# Altium footprint library LED-DIODE.PcbLib: 29 footprints (part 1 of 2)
Each footprint in its own frame and in the unit in brackets; x right, y up, seen from the top. Pads: shape width x height; smd on the part's side, far side on the other; paste and mask are expansions set on the pad; w line width, h text height; cw(c..) or ccw(c..) is an arc to the next point about the centre after c.
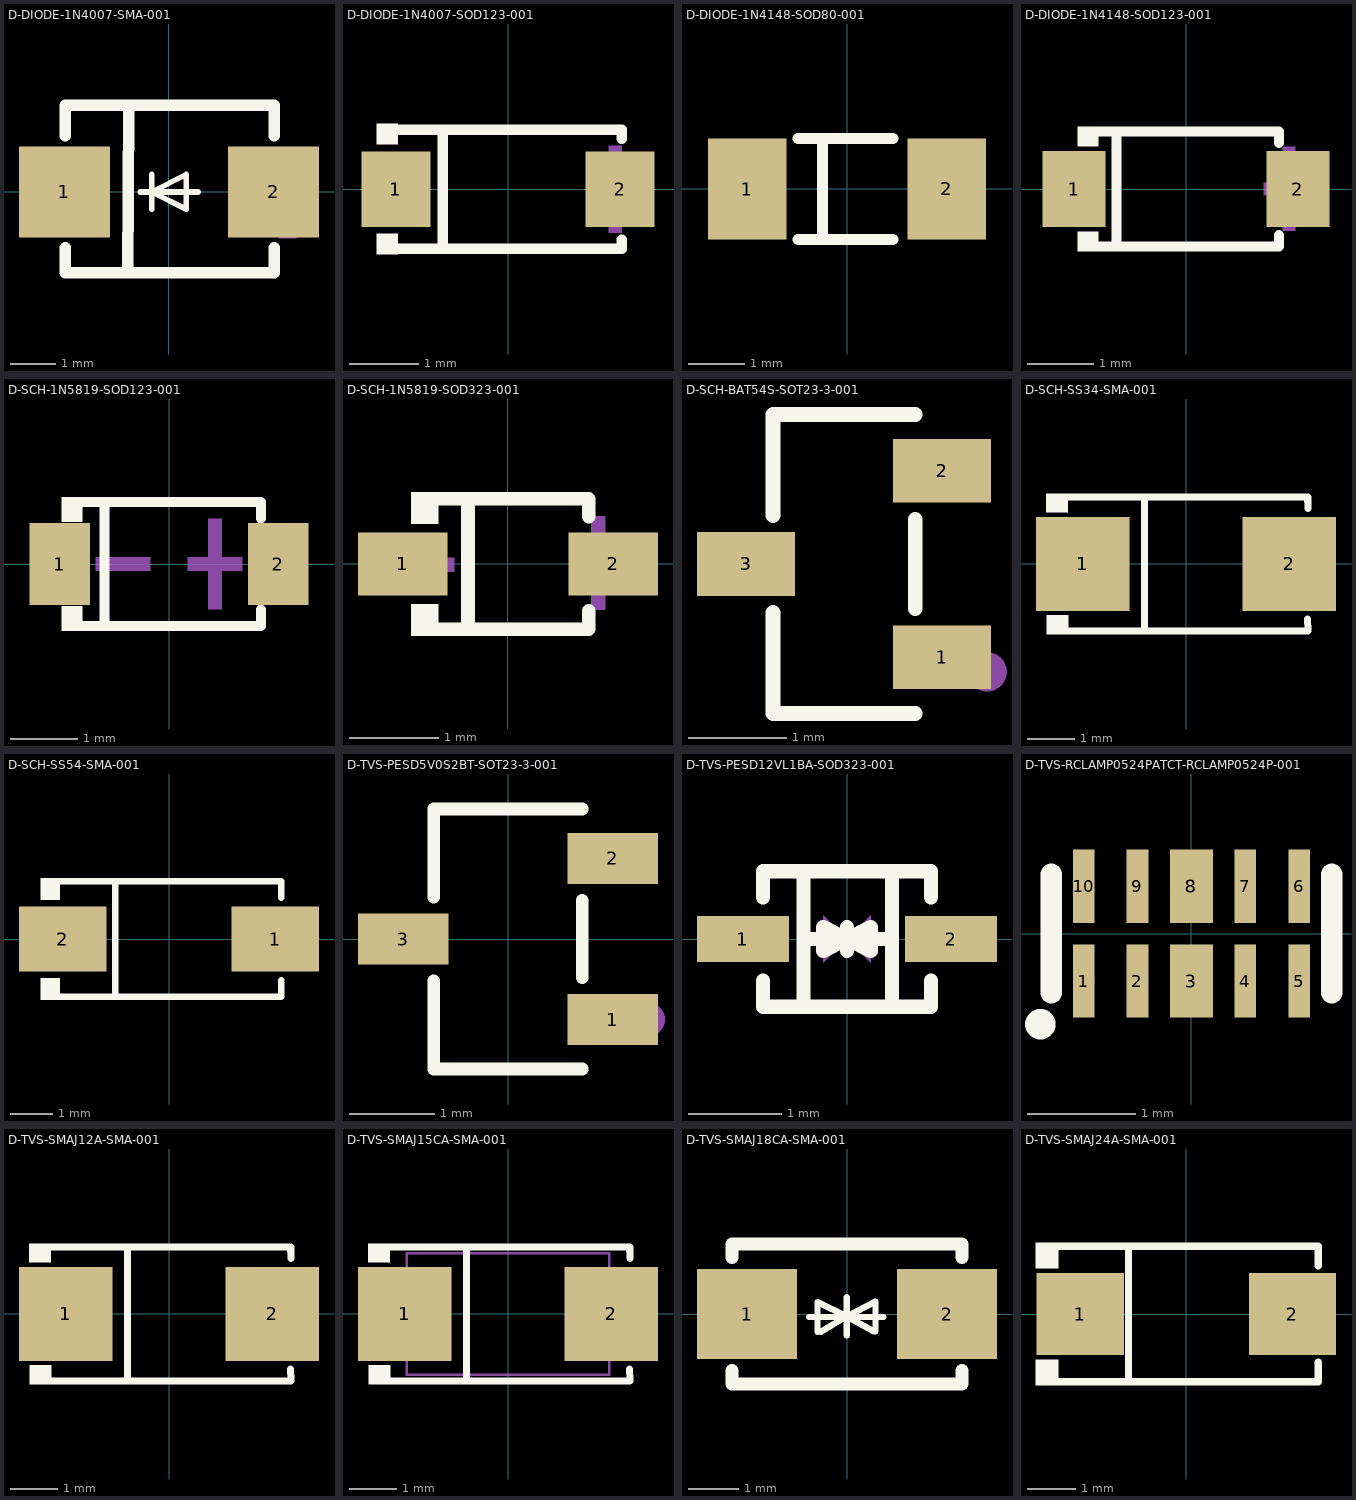
[diagram p0: the footprints below, top view; thin cyan lines are the x and y axes]

## D-DIODE-1N4007-SMA-001 [mm] "DIODE STANDARD 1kV 1A DO-214AC(SMA)"
pads (2):
  rect 2x2 smd paste+0 mask+0.051: 1(-2.3,0) 2(2.3,0)
Top Overlay:
  lines w0.127: -0.635,0 0.635,0 ; -0.381,-0.381 -0.381,0 ; -0.381,0.381 -0.381,0 ; -0.381,0 0.381,0.381 0.381,0 0.381,-0.381 -0.381,0
  lines w0.254: -2.286,-1.231 -2.286,-1.778 2.314,-1.778 2.314,-1.231 ; -2.286,1.231 -2.286,1.905 2.314,1.905 2.314,1.231 ; -0.903,-1.778 -0.889,1.8
Mechanical 15:
  region: 2.413,0.889 2.794,0.889 2.794,-1.016 2.413,-1.016
  region: 1.905,0.254 3.175,0.254 3.175,-0.127 1.905,-0.127
  region: -2.54,0.254 -1.397,0.254 -1.397,-0.127 -2.54,-0.127
3D body "D-DIODE-1N4007-SMA-001.step": height 2.29, standoff 0, extent -2.7,-1.78 2.7,1.78

## D-DIODE-1N4007-SOD123-001 [mm] "DIODE STANDARD 1kV 1A SOD-123"
pads (2):
  rect 1x1.1 smd paste+0 mask+0.051: 1(-1.627,-0.004) 2(1.627,-0.004)
Top Overlay:
  region: -1.6,0.946 -1.6,0.651 -1.905,0.651 -1.905,0.946
  region: -1.6,-0.946 -1.6,-0.651 -1.905,-0.651 -1.905,-0.946
  lines w0.152: -1.8,0.862 -1.406,0.862 1.406,0.862 1.65,0.862 1.65,0.726 ; -1.717,-0.87 -1.407,-0.87 ; -1.406,-0.87 1.406,-0.87 1.65,-0.87 ; -0.945,-0.87 -0.945,0.862 ; 1.65,-0.854 1.65,-0.734
Mechanical 15:
  region: -2.03,0.091 -2.03,-0.099 -1.272,-0.099 -1.272,0.091
  region: 1.935,0.094 1.935,-0.096 1.177,-0.096 1.177,0.094
  region: 1.651,0.631 1.651,-0.633 1.461,-0.633 1.461,0.631
3D body "D-DIODE-1N4007-SOD123-001.step": height 1.08, standoff -0.03, extent -1.85,-0.9 1.85,0.9

## D-DIODE-1N4148-SOD80-001 [mm] "DIODE GP 75V DO-213AA"
pads (2):
  rect 1.4x1.8 smd paste+0 mask+0.051: 1(-1.78,0) 2(1.78,0)
Top Overlay:
  lines w0.2: -0.876,-0.9 0.816,-0.9 ; -0.876,0.9 0.816,0.9 ; -0.437,-0.9 -0.437,0.9
Mechanical 15:
  region: 1.81,0.57 1.97,0.57 1.97,-0.45 1.81,-0.45
  region: 1.49,0.16 2.25,0.16 2.25,-0.02 1.49,-0.02
  region: -2.07,0.16 -1.31,0.16 -1.31,-0.02 -2.07,-0.02
3D body "D-DIODE-1N4148-SOD80-001.step": height 1.61, standoff 0.01, extent -1.75,-0.794 1.751,0.794

## D-DIODE-1N4148-SOD123-001 [mm] "DIODE GP 100V 300mA SOD-123"
pads (2):
  rect 0.95x1.15 smd paste+0 mask+0.051: 1(-1.693,0) 2(1.693,0)
Top Overlay:
  region: -1.33,0.942 -1.33,0.647 -1.635,0.647 -1.635,0.942
  region: -1.33,-0.942 -1.33,-0.647 -1.635,-0.647 -1.635,-0.942
  lines w0.152: -1.406,-0.866 1.406,-0.866 1.406,-0.698 ; -1.406,0.866 1.406,0.866 1.406,0.698 ; -1.049,-0.866 -1.049,0.866
Mechanical 15:
  region: -2.03,0.095 -2.03,-0.095 -1.272,-0.095 -1.272,0.095
  region: 1.935,0.098 1.935,-0.092 1.177,-0.092 1.177,0.098
  region: 1.651,0.635 1.651,-0.629 1.461,-0.629 1.461,0.635
3D body "D-DIODE-1N4148-SOD123-001.step": height 1.2, standoff 0, extent -1.841,-0.825 1.841,0.825

## D-SCH-1N5819-SOD123-001 [mm] "DIODE SCHOTTKY 40V SOD-123"
pads (2):
  rect 0.91x1.22 smd paste+0 mask+0.051: 1(-1.635,0) 2(1.635,0)
Top Overlay:
  region: -1.3,-1.002 -1.3,-0.632 -1.605,-0.632 -1.605,-1.002
  region: -1.3,1.002 -1.3,0.632 -1.605,0.632 -1.605,1.002
  lines w0.152: -1.376,-0.926 1.376,-0.926 1.376,-0.683 ; -1.376,0.926 1.376,0.926 1.376,0.683 ; -0.967,-0.926 -0.967,0.926
Mechanical 15:
  region: 0.79,0.68 0.79,-0.68 0.586,-0.68 0.586,0.68
  region: 1.096,0.102 1.096,-0.102 0.28,-0.102 0.28,0.102
  region: -1.096,0.102 -1.096,-0.102 -0.28,-0.102 -0.28,0.102
3D body "D-SCH-1N5819-SOD123-001.step": height 1.31, standoff 0.01, extent -1.85,-0.8 1.85,0.8

## D-SCH-1N5819-SOD323-001 [mm]
pads (2):
  rect 1x0.7 smd paste+0 mask+0.051: 1(-1.173,0) 2(1.173,0)
Top Overlay:
  region: -0.775,-0.802 -0.775,-0.45 -1.08,-0.45 -1.08,-0.802
  region: -0.775,0.802 -0.775,0.45 -1.08,0.45 -1.08,0.802
  lines w0.152: -0.851,-0.726 0.901,-0.726 0.901,-0.52 ; -0.851,0.726 0.901,0.726 0.901,0.53 ; -0.447,-0.726 -0.447,0.726
Mechanical 15:
  region: 1.083,0.53 1.083,-0.51 0.927,-0.51 0.927,0.53
  region: 1.315,0.09 1.315,-0.066 0.691,-0.066 0.691,0.09
  region: -1.225,0.07 -1.225,-0.086 -0.601,-0.086 -0.601,0.07
3D body "D-SCH-1N5819-SOD323-001.step": height 0.95, standoff 0, extent -1.325,-0.65 1.325,0.65

## D-SCH-BAT54S-SOT23-3-001 [mm] "DIODE ARR SCHOTTKY 30V SOT-23"
pads (3):
  rect 1x0.65 smd paste+0 mask+0.051: 1(431.629,-422.514) 2(431.629,-420.614) 3(429.629,-421.564)
Top Overlay:
  lines w0.152: 429.903,-422.058 429.903,-423.09 431.355,-423.09 ; 429.903,-421.069 429.903,-420.038 431.355,-420.038 ; 431.355,-422.019 431.355,-421.108
Mechanical 15:
  circle w0.2: c432.089,-422.664 r0.1
3D body "D-SCH-BAT54S-SOT23-3-001.step": height 1.05, standoff 0, extent 429.382,-423.011 431.882,-420.117

## D-SCH-SS34-SMA-001 [mm] "DIODE SCHOTTKY 40V SMA(DO-214AC)"
pads (2):
  rect 2x2 smd paste+0 mask+0.051: 1(-2.2,0) 2(2.2,0)
Top Overlay:
  region: -2.52,1.502 -2.521,1.096 -2.981,1.1 -2.977,1.502
  region: -2.512,-1.096 -2.513,-1.503 -2.973,-1.498 -2.969,-1.096
  lines w0.152: -2.596,-1.426 2.596,-1.426 ; -2.596,1.426 2.596,1.426 2.603,1.187 ; -0.884,-1.426 -0.884,1.426 ; 2.593,-1.176 2.6,-1.415
Mechanical 15:
  region: -2.317,-0.101 -2.317,0.101 -1.507,0.101 -1.507,-0.101
  region: 2.29,-0.09 2.29,0.112 1.48,0.112 1.48,-0.09
  region: 2.014,-0.675 2.014,0.675 1.811,0.675 1.811,-0.675
3D body "D-SCH-SS34-SMA-001.step": height 2.1, standoff 0, extent -2.35,-1.3 2.35,1.3

## D-SCH-SS54-SMA-001 [mm] "DIODE SCHOTTKY 40V SMA(DO-214AC)"
pads (2):
  rect 2.063x1.539 smd paste+0 mask+0.051: 1(2.504,0) 2(-2.504,0)
Top Overlay:
  region: -2.57,-1.432 -2.57,-0.922 -3.027,-0.922 -3.027,-1.432
  region: -2.57,1.432 -2.57,0.922 -3.027,0.922 -3.027,1.432
  lines w0.152: -2.646,-1.356 2.646,-1.356 2.646,-0.973 ; -2.646,1.356 2.646,1.356 2.646,0.973 ; -1.269,-1.356 -1.269,1.356
Mechanical 15:
  region: 2.09,-0.64 2.09,0.64 1.898,0.64 1.898,-0.64
  region: 2.378,-0.096 2.378,0.096 1.61,0.096 1.61,-0.096
  region: -2.378,-0.096 -2.378,0.096 -1.61,0.096 -1.61,-0.096
3D body "D-SCH-SS54-SMA-001.step": height 2.1, standoff 0, extent -2.473,-1.527 2.727,1.273

## D-TVS-PESD5V0S2BT-SOT23-3-001 [mm] "ESD DIODE 5VWM 16VC SOT-23"
pads (3):
  rect 1.07x0.6 smd paste+0 mask+0.051: 1(1.235,-0.95) 2(1.235,0.95) 3(-1.235,0)
Top Overlay:
  lines w0.152: -0.876,-0.495 -0.876,-1.536 0.876,-1.536 ; -0.876,0.495 -0.876,1.536 0.876,1.536 ; 0.876,-0.455 0.876,0.455
Mechanical 15:
  circle w0.2: c1.651,-0.95 r0.1
3D body "D-TVS-PESD5V0S2BT-SOT23-3-001.step": height 1.1, standoff 0, extent -1.4,-1.45 1.4,1.45

## D-TVS-PESD12VL1BA-SOD323-001 [mm] "ESD DIODE 12VWM 26VC SOD-323"
pads (2):
  rect 0.985x0.49 smd paste+0 mask+0.051: 1(-1.117,0) 2(1.117,0)
Top Overlay:
  lines w0.152: -0.901,-0.448 -0.901,-0.726 0.901,-0.726 0.901,-0.448 ; -0.901,0.448 -0.901,0.726 0.901,0.726 0.901,0.448 ; -0.467,-0.726 -0.467,0.726 ; 0.483,-0.726 0.483,0.726
  lines w0.154: -0.467,0 0.483,0.003 ; -0.127,0 0.003,0 0.254,0.127 0.254,-0.127 0.002,-0.003 ; -0.002,0.003 -0.254,0.127 -0.254,-0.127 -0.003,0 0.127,0 ; 0,-0.127 0,0.127
Mechanical 15:
  region: 0.254,-0.254 0.254,0.254 0,0
  region: -0.254,0.254 -0.254,-0.254 0,0
3D body "D-TVS-PESD12VL1BA-SOD323-001.step": height 1, standoff 0, extent -1.25,-0.65 1.25,0.65

## D-TVS-RCLAMP0524PATCT-RCLAMP0524P-001 [mm] "ESD DIODE 5VWM 15VC DFN-10(1x2.5)"
pads (10):
  rect 0.2x0.68 smd paste+0 mask+0.051: 1(-1,-0.44) 2(-0.5,-0.44) 4(0.5,-0.44) 5(1,-0.44) 6(1,0.44) 7(0.5,0.44) 9(-0.5,0.44) 10(-1,0.44)
  rect 0.4x0.68 smd paste+0 mask+0.051: 3(0,-0.44) 8(0,0.44)
Top Overlay:
  circle w0.2: c-1.4,-0.84 r0.041
  lines w0.2: -1.3,-0.55 -1.3,0.55 ; 1.3,-0.55 1.3,0.55
Mechanical 15:
  circle w0.1: c-1,-0.44 r0.05
3D body "D-TVS-RCLAMP0524PATCT-RCLAMP0524P-001.step": height 0.58, standoff 0, extent -1.25,-0.51 1.25,0.51

## D-TVS-SMAJ12A-SMA-001 [mm] "TVS DIODE 12VWM 19.9VC DO-214AC(SMA)"
pads (2):
  rect 2x2 smd paste+0 mask+0.051: 1(-2.2,0) 2(2.2,0)
Top Overlay:
  region: -2.52,1.502 -2.521,1.096 -2.981,1.1 -2.977,1.502
  region: -2.512,-1.096 -2.513,-1.503 -2.973,-1.498 -2.969,-1.096
  lines w0.152: -2.596,-1.426 2.596,-1.426 ; -2.596,1.426 2.596,1.426 2.603,1.187 ; -0.884,-1.426 -0.884,1.426 ; 2.593,-1.176 2.6,-1.415
Mechanical 15:
  region: -2.317,-0.101 -2.317,0.101 -1.507,0.101 -1.507,-0.101
  region: 2.29,-0.09 2.29,0.112 1.48,0.112 1.48,-0.09
  region: 2.014,-0.675 2.014,0.675 1.811,0.675 1.811,-0.675
3D body "D-TVS-SMAJ12A-SMA-001.step": height 2.1, standoff 0, extent -2.35,-1.3 2.35,1.3

## D-TVS-SMAJ15CA-SMA-001 [mm] "TVS DIODE 15VWM 24.4VC DO-214AC(SMA)"
pads (2):
  rect 1.999x1.999 smd: 1(-2.2,0) 2(2.2,0)
Top Overlay:
  region: -2.52,1.501 -2.522,1.095 -2.982,1.1 -2.977,1.501
  region: -2.512,-1.097 -2.515,-1.504 -2.974,-1.499 -2.969,-1.097
  lines w0.152: -2.596,-1.427 2.596,-1.427 ; -2.596,1.425 2.596,1.425 2.603,1.186 ; -0.884,-1.427 -0.884,1.425 ; 2.593,-1.176 2.598,-1.415
Mechanical 6:
  region: -2.319,-0.102 -2.319,0.099 -1.509,0.099 -1.509,-0.102
  region: 2.289,-0.091 2.289,0.112 1.478,0.112 1.478,-0.091
  region: 2.014,-0.676 2.014,0.673 1.811,0.673 1.811,-0.676
Mechanical 7:
  lines w0.051: -2.162,-1.3 -2.162,1.298 2.159,1.298 2.159,-1.3 -2.162,-1.3
Mechanical 8:
  region: -2.545,-1.3 -2.555,-1.333 -2.581,-1.356 -2.614,-1.361 -2.644,-1.346 -2.662,-1.318 -2.662,-1.285 -2.644,-1.255 -2.614,-1.242 -2.581,-1.247 -2.555,-1.267
Mechanical 9:
  region: 2.603,0.724 2.603,-0.726 1.481,-0.726 1.481,0.724
  region: -1.481,0.724 -1.481,-0.726 -2.606,-0.726 -2.606,0.724
3D body "D-TVS-SMAJ15CA-SMA-001.step": height 2.09, standoff -0.01, extent -2.495,-1.3 2.545,1.3

## D-TVS-SMAJ18CA-SMA-001 [mm] "TVS DIODE 18VWM 29.2VC DO-214AC(SMA)"
pads (2):
  rect 2x1.8 smd paste+0 mask+0.051: 1(-2,0) 2(2,0)
Top Overlay:
  lines w0.127: -0.76,-0.06 0.73,-0.06 ; -0.59,-0.36 -0.59,0.24 -0.002,-0.049 ; -0.53,-0.36 -0.002,-0.049 ; -0.002,-0.43 -0.002,-0.049 ; -0.002,0.332 -0.002,-0.049 ; 0.54,-0.35 -0.002,-0.049 ; 0.57,-0.35 0.57,0.25 -0.002,-0.049
  lines w0.254: -2.3,-1.131 -2.3,-1.4 2.3,-1.4 2.3,-1.131 ; -2.3,1.131 -2.3,1.4 2.3,1.4 2.3,1.131
3D body "D-TVS-SMAJ18CA-SMA-001.step": height 2.08, standoff -0.02, extent -2.6,-1.25 2.6,1.25

## D-TVS-SMAJ24A-SMA-001 [mm] "TVS DIODE 24VWM 38.9VC DO-214AC(SMA)"
pads (2):
  rect 1.8x1.7 smd paste+0 mask+0.051: 1(-2.192,0) 2(2.192,0)
Top Overlay:
  region: -2.65,1.477 -2.65,0.949 -3.107,0.949 -3.107,1.477
  region: -2.65,-1.477 -2.65,-0.949 -3.107,-0.949 -3.107,-1.477
  lines w0.152: -2.726,-1.401 2.726,-1.401 2.726,-1 ; -2.726,1.401 2.726,1.401 2.726,1 ; -1.197,-1.401 -1.197,1.401
Mechanical 15:
  region: -2.451,-0.099 -2.451,0.099 -1.656,0.099 -1.656,-0.099
  region: 2.451,-0.099 2.451,0.099 1.656,0.099 1.656,-0.099
  region: 2.153,-0.663 2.153,0.663 1.954,0.663 1.954,-0.663
3D body "D-TVS-SMAJ24A-SMA-001.step": height 2.08, standoff -0.02, extent -2.6,-1.25 2.6,1.25